# EAGLE library part TMP-275 (library Indrion_balaji1)
Temperature Sensor - Device: TMP-275 Package: MSOP-08
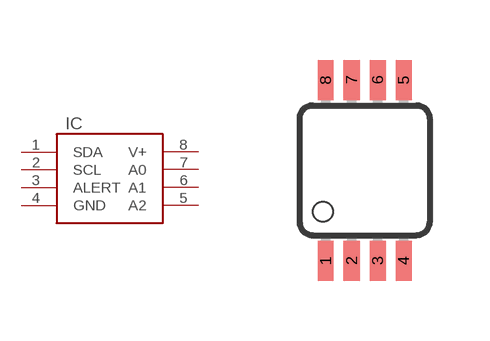
[diagram p0: symbol with the pads of MSOP08; footprint MSOP08]

Designator prefix IC

## TMP-275  [MSOP08]
1  SDA
2  SCL
3  ALERT
4  GND
5  A2
6  A1
7  A0
8  V+

## Footprint MSOP08 (pad centres in mm)
8-Lead micro SO (RM-8) Source: http://www.analog.com/UploadedFiles/Data_Sheets/703465986AD8611_2_0.pdf
smd 0.4 x 1: 1 -0.976,-2.263; 2 -0.326,-2.263; 3 0.324,-2.263; 4 0.974,-2.263; 5 0.974,2.262; 6 0.324,2.262; 7 -0.326,2.262; 8 -0.976,2.262